# Altium schematic symbol library TC7WB66CFKLF.SchLib: 1 symbol
Pins are listed as number, name and electrical type; pins without a type are passive.

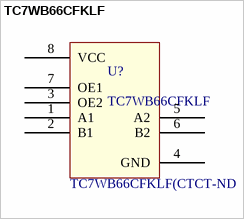
[diagram p0: symbol TC7WB66CFKLF]

## TC7WB66CFKLF
designator U?  Supplier Part Number 1: TC7WB66CFKLF(CTCT-ND
Active high bus switch; Supplier 1: Digi-Key
footprint US8
pins: 1 A1, 2 B1, 3 OE2, 4 GND, 5 A2, 6 B2, 7 OE1, 8 VCC